# EAGLE library part OPTO_2_CHANNELS (library jogwheel_parts)
2 CHANNEL OPTOCOUPLER
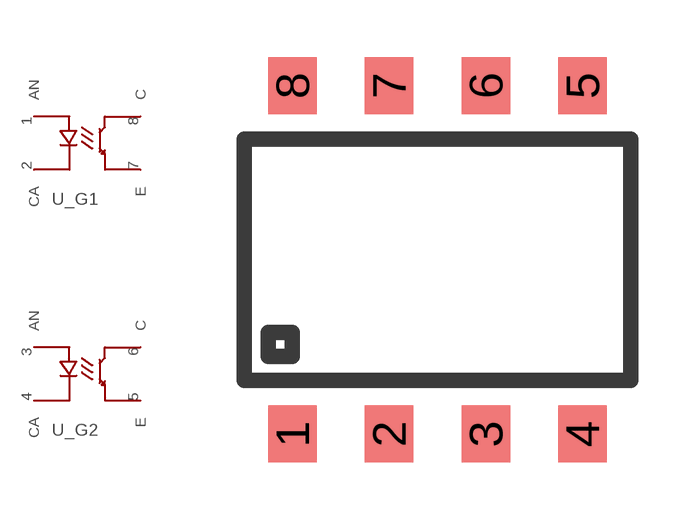
[diagram p3: symbol with the pads of ACPL-825; footprint ACPL-825]

Designator prefix U; gates _G1=OPTO _G2=OPTO

## OPTO_2_CHANNELSACPL-827-300E  [ACPL-825]
1  _G1:AN
2  _G1:CA
3  _G2:AN
4  _G2:CA
5  _G2:E
6  _G2:C
7  _G1:E
8  _G1:C

## Footprint ACPL-825 (pad centres in mm)
ACPL-825 Dimensions of package <http://www.farnell.com/datasheets/461120.pdf>
smd 1.27 x 1.5: 1 0,-9.66; 2 2.54,-9.66; 3 5.08,-9.66; 4 7.62,-9.66; 5 7.62,-0.5; 6 5.08,-0.5; 7 2.54,-0.5; 8 0,-0.5